# Altium footprint library CAP_CAN_G_10MM_SMT.PcbLib: 1 footprints
Each footprint in its own frame and in the unit in brackets; x right, y up, seen from the top. Pads: shape width x height; smd on the part's side, far side on the other; paste and mask are expansions set on the pad; w line width, h text height; cw(c..) or ccw(c..) is an arc to the next point about the centre after c.
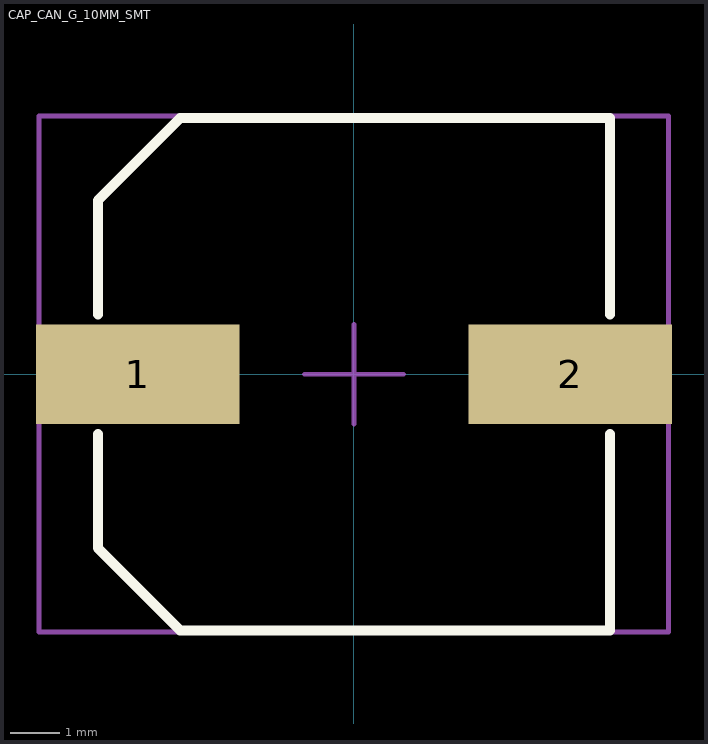
[diagram p0: the footprint, top view; thin cyan lines are the x and y axes]

## CAP_CAN_G_10MM_SMT [mm] "CAP SMT CAN G 10MM dia x 10.2MM height"
height 10.2
pads (2):
  rect 4.1x2 smd mask+0.102: 1(-4.35,0) 2(4.35,0)
Top Overlay:
  lines w0.2: -5.15,-1.2 -5.15,-3.5 -3.5,-5.15 5.15,-5.15 5.15,-1.2 ; -5.15,1.2 -5.15,3.5 -3.5,5.15 5.15,5.15 5.15,1.2
Part Outline:
  lines w0.1: -1,0 1,0 ; 0,-1 0,1 ; -6.34,-5.18 -6.34,5.19 6.33,5.19 6.33,-5.18 -6.34,-5.18
3D body: height 10.4, standoff 0.1, extent -4.99,-4.96 4.99,5